# EAGLE library part AT42QT1012 (library johnmamish-atmel)
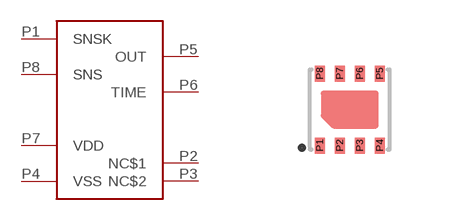
[diagram p0: symbol with the pads of AT42QT1012_UDFN; footprint AT42QT1012_UDFN]

Designator prefix -

## AT42QT1012  [AT42QT1012_UDFN]
P1  SNSK
P2  NC$1
P3  NC$2
P4  VSS
P5  OUT
P6  TIME
P7  VDD
P8  SNS

## Footprint AT42QT1012_UDFN (pad centres in mm)
smd 0.25 x 0.4: P1 -0.75,-0.9; P2 -0.25,-0.9; P3 0.25,-0.9; P4 0.75,-0.9; P5 0.75,0.9; P6 0.25,0.9; P7 -0.25,0.9; P8 -0.75,0.9